# EAGLE library part ICM-20948 (library ICM-20948)
Accelerometer, Gyroscope, Magnetometer, 9 Axis Sensor I²C, SPI Output Check prices <https://pricing.snapeda.com/parts/ICM-20948/TDK%20InvenSense/view-part?ref=eda>
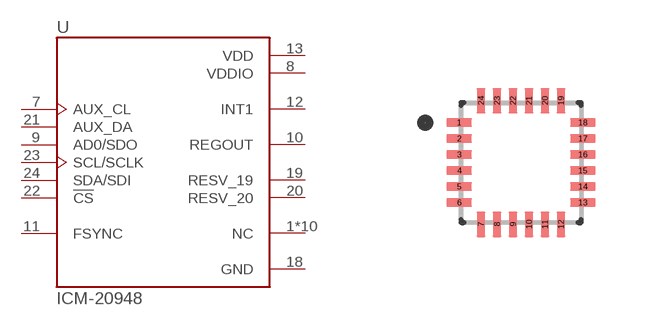
[diagram p0: symbol with the pads of QFN40P300X300X105-24N; footprint QFN40P300X300X105-24N]

Designator prefix U

## ICM-20948 (Availability: In Stock; Description: ICM20948 9DOF MOTION SENSOR BREA; MF: TDK InvenSense; MP: ICM-20948; Package: None; Price: None; Purchase-URL: https://pricing.snapeda.com/search/part/ICM-20948/?ref=eda)  [QFN40P300X300X105-24N]
1  NC  nc
2  NC  nc
3  NC  nc
4  NC  nc
5  NC  nc
6  NC  nc
7  AUX_CL  in
8  VDDIO  pwr
9  AD0/SDO
10  REGOUT  out
11  FSYNC  in
12  INT1  out
13  VDD  pwr
14  NC  nc
15  NC  nc
16  NC  nc
17  NC  nc
18  GND  pwr
19  RESV_19  pas
20  RESV_20  pas
21  AUX_DA
22  !CS  in
23  SCL/SCLK  in
24  SDA/SDI

## Footprint QFN40P300X300X105-24N (pad centres in mm)
smd 0.64 x 0.22: 1 -1.545,1; 2 -1.545,0.6; 3 -1.545,0.2; 4 -1.545,-0.2; 5 -1.545,-0.6; 6 -1.545,-1; 13 1.545,-1; 14 1.545,-0.6; 15 1.545,-0.2; 16 1.545,0.2; 17 1.545,0.6; 18 1.545,1
smd 0.22 x 0.64: 7 -1,-1.545; 8 -0.6,-1.545; 9 -0.2,-1.545; 10 0.2,-1.545; 11 0.6,-1.545; 12 1,-1.545; 19 1,1.545; 20 0.6,1.545; 21 0.2,1.545; 22 -0.2,1.545; 23 -0.6,1.545; 24 -1,1.545